# Altium schematic symbol library ACPL-7900-500E.SchLib: 1 symbol
Pins are listed as number, name and electrical type; pins without a type are passive.

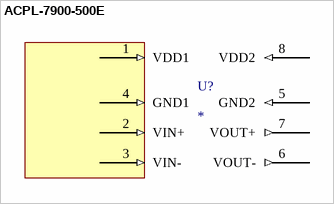
[diagram p0: symbol ACPL-7900-500E]

## ACPL-7900-500E
designator U?
pins: 1 VDD1 (in), 2 VIN+ (in), 3 VIN- (in), 4 GND1 (in), 5 GND2 (in), 6 VOUT- (out), 7 VOUT+ (out), 8 VDD2 (in)